# Altium schematic symbol library MPRLS.SchLib: 1 symbol
Pins are listed as number, name and electrical type; pins without a type are passive.

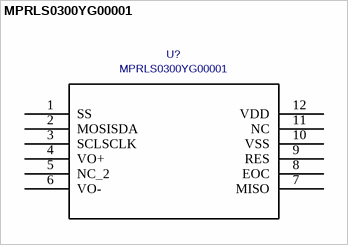
[diagram p0: symbol MPRLS0300YG00001]

## MPRLS0300YG00001
designator U?
Mfr_Name: Honeywell; Manufacturer_Part_Number: MPRLS0300YG00001B; Value: MPRLS0300YG00001; Copyright: Copyright (C) 2023 Ultra Librarian. All rights reserved.; Digi-Key_Part_Number_1: 480-MPRLS0300YG00001BTR-ND; Digi-Key_Part_Number_2: 480-MPRLS0300YG00001BCT-ND; Digi-Key_Part_Number_3: 480-MPRLS0300YG00001BDKR-ND
footprint MPRLS0300YG00001
pins: 1 SS, 2 MOSISDA, 3 SCLSCLK, 4 VO+, 5 NC_2, 6 VO-, 7 MISO, 8 EOC, 9 RES, 10 VSS, 11 NC, 12 VDD